# Altium footprint library SOT.PcbLib: 1 footprints
Each footprint in its own frame and in the unit in brackets; x right, y up, seen from the top. Pads: shape width x height; smd on the part's side, far side on the other; paste and mask are expansions set on the pad; w line width, h text height; cw(c..) or ccw(c..) is an arc to the next point about the centre after c.
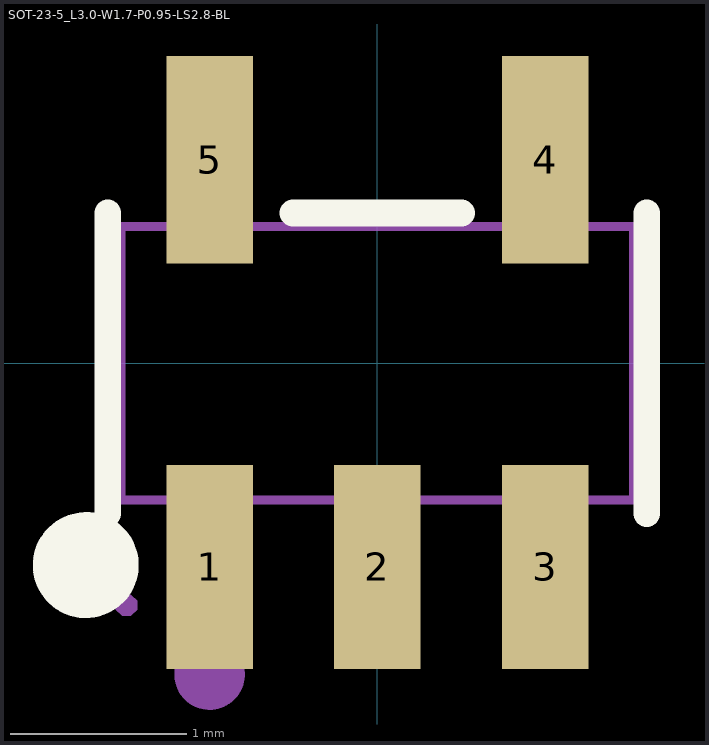
[diagram p0: the footprint, top view; thin cyan lines are the x and y axes]

## SOT-23-5_L3.0-W1.7-P0.95-LS2.8-BL [mm]
pads (5):
  rect 0.49x1.157 smd: 1(-0.95,-1.154) 2(0,-1.154) 3(0.95,-1.154)
  rect 0.49x1.175 smd: 4(0.95,1.154) 5(-0.95,1.154)
Top Overlay:
  circle w0.3: c-1.651,-1.143 r0.15
  lines w0.152: -1.526,-0.851 -1.526,0.851 ; -0.476,0.851 0.476,0.851 ; 1.526,-0.851 1.526,0.851
Mechanical 6:
  circle w0.2: c-0.95,-1.763 r0.1
Mechanical 15:
  region: -1.36,-1.37 -1.36,-1.345 -1.395,-1.31 -1.445,-1.31 -1.48,-1.345 -1.48,-1.37 -1.48,-1.395 -1.445,-1.43 -1.395,-1.43 -1.36,-1.395
  region: -1.125,0.74 -1.125,1.01 -0.775,1.01 -0.775,0.74
  region: -1.125,1 -1.125,1.4 -0.775,1.4 -0.775,1
  region: 0.775,0.74 0.775,1.01 1.125,1.01 1.125,0.74
  region: 0.775,1 0.775,1.4 1.125,1.4 1.125,1
  region: 0.775,-1.01 0.775,-0.74 1.125,-0.74 1.125,-1.01
  region: 0.775,-1.4 0.775,-1 1.125,-1 1.125,-1.4
  region: -0.175,-1.01 -0.175,-0.74 0.175,-0.74 0.175,-1.01
  region: -0.175,-1.4 -0.175,-1 0.175,-1 0.175,-1.4
  region: -1.125,-1.01 -1.125,-0.74 -0.775,-0.74 -0.775,-1.01
  region: -1.125,-1.4 -1.125,-1 -0.775,-1 -0.775,-1.4
  lines w0.051: -1.45,-0.775 1.45,-0.775 1.45,0.775 -1.45,0.775 -1.45,-0.775
3D body "SOT23-5.step": height 1.25, standoff 0, extent -1.45,-1.506 1.45,1.506